# Altium footprint library Interface.PcbLib: 169 footprints (part 1 of 11)
Each footprint in its own frame and in the unit in brackets; x right, y up, seen from the top. Pads: shape width x height; smd on the part's side, far side on the other; paste and mask are expansions set on the pad; w line width, h text height; cw(c..) or ccw(c..) is an arc to the next point about the centre after c.
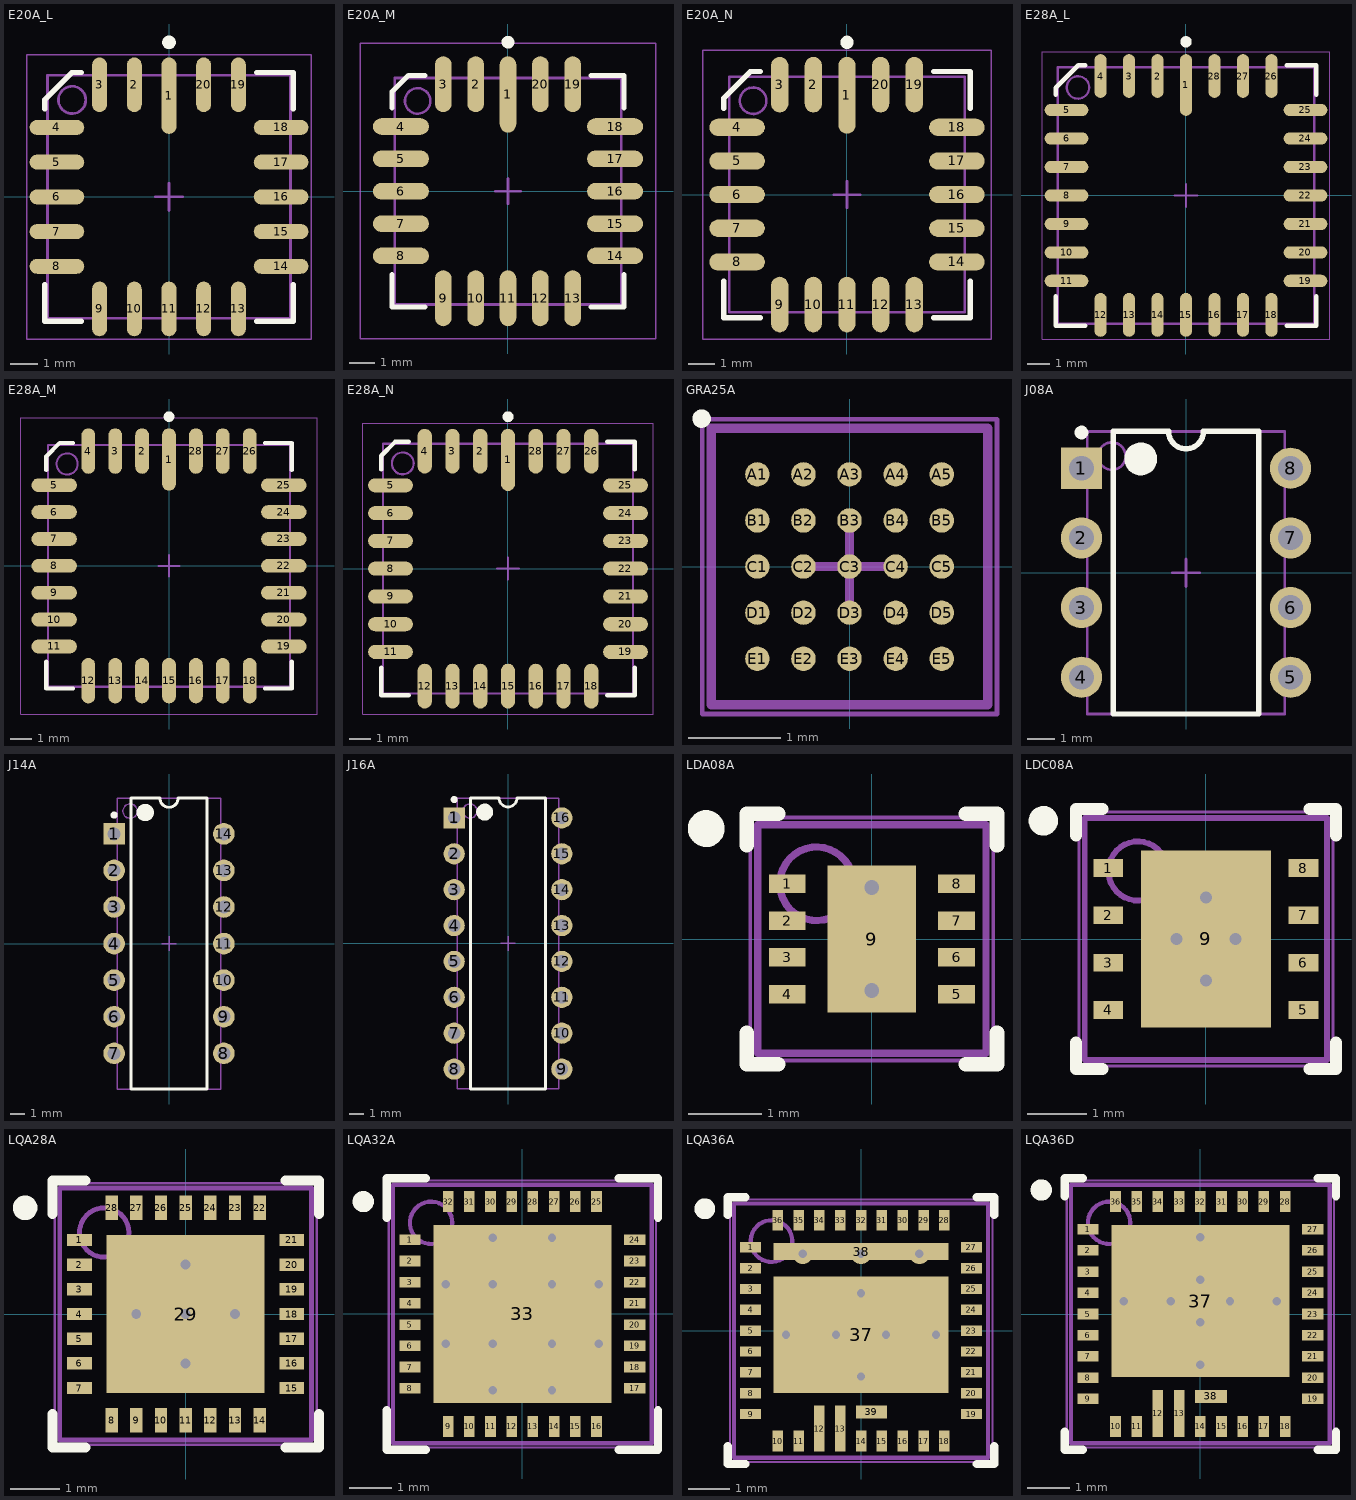
[diagram p0: the footprints below, top view; thin cyan lines are the x and y axes]

## E20A_L [mm] "Leadless Chip Carrier, 20-Leads, Body 8.9x8.9mm, Pitch 1.27mm, IPC High Density"
height 1.91
pads (20):
  oval 0.55x2.8 smd: 1(0,3.7)
  oval 0.55x2 smd: 2(-1.27,4.1) 3(-2.54,4.1) 9(-2.54,-4.1) 10(-1.27,-4.1) 11(0,-4.1) 12(1.27,-4.1) 13(2.54,-4.1) 19(2.54,4.1) 20(1.27,4.1)
  oval 2x0.55 smd: 4(-4.1,2.54) 5(-4.1,1.27) 6(-4.1,0) 7(-4.1,-1.27) 8(-4.1,-2.54) 14(4.1,-2.54) 15(4.1,-1.27) 16(4.1,0) 17(4.1,1.27) 18(4.1,2.54)
Top Overlay:
  circle w0.25: c0,5.65 r0.125
  lines w0.2: -4.55,-3.215 -4.55,-4.55 -3.215,-4.55 ; -4.55,3.215 -4.55,3.55 -3.55,4.55 -3.215,4.55 ; 3.215,-4.55 4.55,-4.55 4.55,-3.215 ; 3.215,4.55 4.55,4.55 4.55,3.215
Mechanical 13:
  circle w0.1: c-3.545,3.545 r0.5
  lines w0.1: -4.445,-4.445 4.445,-4.445 4.445,4.445 -4.445,4.445 -4.445,-4.445
Mechanical 15:
  lines w0.05: -5.2,-5.2 5.2,-5.2 5.2,5.2 -5.2,5.2 -5.2,-5.2
  lines w0.1: -0.5,0 0.5,0 ; 0,-0.5 0,0.5
3D body: height 1.91, standoff 0, extent -4.445,-4.445 4.445,4.445

## E20A_M [mm] "Leadless Chip Carrier, 20-Leads, Body 8.9x8.9mm, Pitch 1.27mm, IPC Low Density"
height 1.91
pads (20):
  oval 0.65x3 smd: 1(0,3.8)
  oval 0.65x2.2 smd: 2(-1.27,4.2) 3(-2.54,4.2) 9(-2.54,-4.2) 10(-1.27,-4.2) 11(0,-4.2) 12(1.27,-4.2) 13(2.54,-4.2) 19(2.54,4.2) 20(1.27,4.2)
  oval 2.2x0.65 smd: 4(-4.2,2.54) 5(-4.2,1.27) 6(-4.2,0) 7(-4.2,-1.27) 8(-4.2,-2.54) 14(4.2,-2.54) 15(4.2,-1.27) 16(4.2,0) 17(4.2,1.27) 18(4.2,2.54)
Top Overlay:
  circle w0.25: c0,5.85 r0.125
  lines w0.2: -4.55,-3.265 -4.55,-4.55 -3.265,-4.55 ; -4.55,3.265 -4.55,3.908 -3.908,4.55 -3.265,4.55 ; 3.265,-4.55 4.55,-4.55 4.55,-3.265 ; 3.265,4.55 4.55,4.55 4.55,3.265
Mechanical 13:
  circle w0.1: c-3.545,3.545 r0.5
  lines w0.1: -4.445,-4.445 -4.445,4.445 4.445,4.445 4.445,-4.445 -4.445,-4.445
Mechanical 15:
  lines w0.05: -5.8,-5.8 -5.8,5.8 5.8,5.8 5.8,-5.8 -5.8,-5.8
  lines w0.1: -0.5,0 0.5,0 ; 0,-0.5 0,0.5
3D body: height 1.91, standoff 0, extent -4.445,-4.445 4.445,4.445

## E20A_N [mm] "Leadless Chip Carrier, 20-Leads, Body 8.9x8.9mm, Pitch 1.27mm, IPC Medium Density"
height 1.91
pads (20):
  oval 0.65x2.9 smd: 1(0,3.75)
  oval 0.65x2.1 smd: 2(-1.27,4.15) 3(-2.54,4.15) 9(-2.54,-4.15) 10(-1.27,-4.15) 11(0,-4.15) 12(1.27,-4.15) 13(2.54,-4.15) 19(2.54,4.15) 20(1.27,4.15)
  oval 2.1x0.65 smd: 4(-4.15,2.54) 5(-4.15,1.27) 6(-4.15,0) 7(-4.15,-1.27) 8(-4.15,-2.54) 14(4.15,-2.54) 15(4.15,-1.27) 16(4.15,0) 17(4.15,1.27) 18(4.15,2.54)
Top Overlay:
  circle w0.25: c0,5.75 r0.125
  lines w0.2: -4.65,-3.265 -4.65,-4.65 -3.265,-4.65 ; -4.65,3.265 -4.65,3.65 -3.65,4.65 -3.265,4.65 ; 3.265,-4.65 4.65,-4.65 4.65,-3.265 ; 3.265,4.65 4.65,4.65 4.65,3.265
Mechanical 13:
  circle w0.1: c-3.545,3.545 r0.5
  lines w0.1: -4.445,-4.445 -4.445,4.445 4.445,4.445 4.445,-4.445 -4.445,-4.445
Mechanical 15:
  lines w0.05: -5.45,-5.45 -5.45,5.45 5.45,5.45 5.45,-5.45 -5.45,-5.45
  lines w0.1: -0.5,0 0.5,0 ; 0,-0.5 0,0.5
3D body: height 1.91, standoff 0, extent -4.445,-4.445 4.445,4.445

## E28A_L [mm] "Leadless Chip Carrier, 28-Leads, Body 11.4x11.4mm, Pitch 1.27mm, IPC High Density"
height 1.88
pads (28):
  oval 0.55x2.75 smd: 1(0,4.925)
  oval 0.55x1.95 smd: 2(-1.27,5.325) 3(-2.54,5.325) 4(-3.81,5.325) 12(-3.81,-5.325) 13(-2.54,-5.325) 14(-1.27,-5.325) 15(0,-5.325) 16(1.27,-5.325) 17(2.54,-5.325) 18(3.81,-5.325) 26(3.81,5.325) 27(2.54,5.325) 28(1.27,5.325)
  oval 1.95x0.55 smd: 5(-5.325,3.81) 6(-5.325,2.54) 7(-5.325,1.27) 8(-5.325,0) 9(-5.325,-1.27) 10(-5.325,-2.54) 11(-5.325,-3.81) 19(5.325,-3.81) 20(5.325,-2.54) 21(5.325,-1.27) 22(5.325,0) 23(5.325,1.27) 24(5.325,2.54) 25(5.325,3.81)
Top Overlay:
  circle w0.25: c0,6.85 r0.125
  lines w0.2: -5.8,-4.485 -5.8,-5.8 -4.485,-5.8 ; -5.8,4.485 -5.8,4.8 -4.8,5.8 -4.485,5.8 ; 4.485,-5.8 5.8,-5.8 5.8,-4.485 ; 4.485,5.8 5.8,5.8 5.8,4.485
Mechanical 13:
  circle w0.1: c-4.815,4.815 r0.5
  lines w0.1: -5.715,-5.715 5.715,-5.715 5.715,5.715 -5.715,5.715 -5.715,-5.715
Mechanical 15:
  lines w0.05: -6.4,-6.4 6.4,-6.4 6.4,6.4 -6.4,6.4 -6.4,-6.4
  lines w0.1: -0.5,0 0.5,0 ; 0,-0.5 0,0.5
3D body: height 1.88, standoff 0, extent -5.715,-5.715 5.715,5.715

## E28A_M [mm] "Leadless Chip Carrier, 28-Leads, Body 11.4x11.4mm, Pitch 1.27mm, IPC Low Density"
height 1.88
pads (28):
  oval 0.65x2.95 smd: 1(0,5.025)
  oval 0.65x2.15 smd: 2(-1.27,5.425) 3(-2.54,5.425) 4(-3.81,5.425) 12(-3.81,-5.425) 13(-2.54,-5.425) 14(-1.27,-5.425) 15(0,-5.425) 16(1.27,-5.425) 17(2.54,-5.425) 18(3.81,-5.425) 26(3.81,5.425) 27(2.54,5.425) 28(1.27,5.425)
  oval 2.15x0.65 smd: 5(-5.425,3.81) 6(-5.425,2.54) 7(-5.425,1.27) 8(-5.425,0) 9(-5.425,-1.27) 10(-5.425,-2.54) 11(-5.425,-3.81) 19(5.425,-3.81) 20(5.425,-2.54) 21(5.425,-1.27) 22(5.425,0) 23(5.425,1.27) 24(5.425,2.54) 25(5.425,3.81)
Top Overlay:
  circle w0.25: c0,7.05 r0.125
  lines w0.2: -5.8,-4.535 -5.8,-5.8 -4.535,-5.8 ; -5.8,4.535 -5.8,5.168 -5.168,5.8 -4.535,5.8 ; 4.535,-5.8 5.8,-5.8 5.8,-4.535 ; 4.535,5.8 5.8,5.8 5.8,4.535
Mechanical 13:
  circle w0.1: c-4.815,4.815 r0.5
  lines w0.1: -5.715,-5.715 -5.715,5.715 5.715,5.715 5.715,-5.715 -5.715,-5.715
Mechanical 15:
  lines w0.05: -7,-7 -7,7 7,7 7,-7 -7,-7
  lines w0.1: -0.5,0 0.5,0 ; 0,-0.5 0,0.5
3D body: height 1.88, standoff 0, extent -5.715,-5.715 5.715,5.715

## E28A_N [mm] "Leadless Chip Carrier, 28-Leads, Body 11.4x11.4mm, Pitch 1.27mm, IPC Medium Density"
height 1.88
pads (28):
  oval 0.65x2.85 smd: 1(0,4.975)
  oval 0.65x2.05 smd: 2(-1.27,5.375) 3(-2.54,5.375) 4(-3.81,5.375) 12(-3.81,-5.375) 13(-2.54,-5.375) 14(-1.27,-5.375) 15(0,-5.375) 16(1.27,-5.375) 17(2.54,-5.375) 18(3.81,-5.375) 26(3.81,5.375) 27(2.54,5.375) 28(1.27,5.375)
  oval 2.05x0.65 smd: 5(-5.375,3.81) 6(-5.375,2.54) 7(-5.375,1.27) 8(-5.375,0) 9(-5.375,-1.27) 10(-5.375,-2.54) 11(-5.375,-3.81) 19(5.375,-3.81) 20(5.375,-2.54) 21(5.375,-1.27) 22(5.375,0) 23(5.375,1.27) 24(5.375,2.54) 25(5.375,3.81)
Top Overlay:
  circle w0.25: c0,6.95 r0.125
  lines w0.2: -5.8,-4.535 -5.8,-5.8 -4.535,-5.8 ; -5.8,4.535 -5.8,5.168 -5.167,5.8 -4.535,5.8 ; 4.535,-5.8 5.8,-5.8 5.8,-4.535 ; 4.535,5.8 5.8,5.8 5.8,4.535
Mechanical 13:
  circle w0.1: c-4.815,4.815 r0.5
  lines w0.1: -5.715,-5.715 -5.715,5.715 5.715,5.715 5.715,-5.715 -5.715,-5.715
Mechanical 15:
  lines w0.05: -6.65,-6.65 -6.65,6.65 6.65,6.65 6.65,-6.65 -6.65,-6.65
  lines w0.1: -0.5,0 0.5,0 ; 0,-0.5 0,0.5
3D body: height 1.88, standoff 0, extent -5.715,-5.715 5.715,5.715

## GRA25A [mm] "BGA, 25-Leads, Body 3x3mm, Pitch 0.5mm, NSC Recommended"
height 1.1
pads (25):
  round 0.265 smd paste-0.132 mask+0.05: A1(-1,1) A2(-0.5,1) A3(0,1) A4(0.5,1) A5(1,1) B1(-1,0.5) B2(-0.5,0.5) B3(0,0.5) B4(0.5,0.5) B5(1,0.5) C1(-1,0) C2(-0.5,0) C3(0,0) C4(0.5,0) C5(1,0) D1(-1,-0.5) D2(-0.5,-0.5) D3(0,-0.5) D4(0.5,-0.5) D5(1,-0.5) E1(-1,-1) E2(-0.5,-1) E3(0,-1) E4(0.5,-1) E5(1,-1)
Top Overlay:
  circle w0.1: c-1.605,1.605 r0.05
Top Paste:
  drawing of 225 lines, arcs and shapes, not listed
Mechanical 13:
  lines w0.1: -1.5,-1.5 -1.5,1.5 1.5,1.5 1.5,-1.5 -1.5,-1.5
Mechanical 15:
  lines w0.05: -1.6,-1.6 -1.6,1.6 1.6,1.6 1.6,-1.6 -1.6,-1.6
  lines w0.1: -0.5,0 0.5,0 ; 0,-0.5 0,0.5
3D body: height 1.1, standoff 0, extent -1.5,-1.5 1.5,1.5

## J08A [mm] "DIP, 8-Pin, Row Spacing 7.62 mm, Pitch 2.54 mm"
height 5.08
pads (8):
  rect 1.5x1.5 hole 0.9: 1(-3.81,3.81)
  round 1.5 hole 0.9: 2(-3.81,1.27) 3(-3.81,-1.27) 4(-3.81,-3.81) 5(3.81,-3.81) 6(3.81,-1.27) 7(3.81,1.27) 8(3.81,3.81)
Top Overlay:
  circle w0.6: c-1.65,4.15 r0.3
  circle w0.25: c-3.81,5.11 r0.125
  lines w0.2: -2.65,-5.15 2.65,-5.15 2.65,5.15 0.635,5.15 cw(c0,5.15) -0.635,5.15 -2.65,5.15 -2.65,-5.15
Mechanical 13:
  circle w0.1: c-2.7,4.25 r0.5
  lines w0.1: -3.6,-5.15 3.6,-5.15 3.6,5.15 -3.6,5.15 -3.6,-5.15
Mechanical 15:
  lines w0.1: -0.5,0 0.5,0 ; 0,-0.5 0,0.5
3D body: height 5.08, standoff 0, extent -3.6,-5.15 3.6,5.15

## J14A [mm] "DIP, 14-Pin, Row Spacing 7.62 mm, Pitch 2.54 mm"
height 5.08
pads (14):
  rect 1.5x1.5 hole 0.9: 1(-3.81,7.62)
  round 1.5 hole 0.9: 2(-3.81,5.08) 3(-3.81,2.54) 4(-3.81,0) 5(-3.81,-2.54) 6(-3.81,-5.08) 7(-3.81,-7.62) 8(3.81,-7.62) 9(3.81,-5.08) 10(3.81,-2.54) 11(3.81,0) 12(3.81,2.54) 13(3.81,5.08) 14(3.81,7.62)
Top Overlay:
  circle w0.6: c-1.65,9.1 r0.3
  circle w0.25: c-3.81,8.92 r0.125
  lines w0.2: -2.65,-10.1 2.65,-10.1 2.65,10.1 0.635,10.1 cw(c0,10.1) -0.635,10.1 -2.65,10.1 -2.65,-10.1
Mechanical 13:
  circle w0.1: c-2.7,9.2 r0.5
  lines w0.1: -3.6,-10.1 3.6,-10.1 3.6,10.1 -3.6,10.1 -3.6,-10.1
Mechanical 15:
  lines w0.1: -0.5,0 0.5,0 ; 0,-0.5 0,0.5
3D body: height 5.08, standoff 0, extent -3.6,-10.1 3.6,10.1

## J16A [mm] "DIP, 16-Pin, Row Spacing 7.62 mm, Pitch 2.54 mm"
height 5.08
pads (16):
  rect 1.5x1.5 hole 0.9: 1(-3.81,8.89)
  round 1.5 hole 0.9: 2(-3.81,6.35) 3(-3.81,3.81) 4(-3.81,1.27) 5(-3.81,-1.27) 6(-3.81,-3.81) 7(-3.81,-6.35) 8(-3.81,-8.89) 9(3.81,-8.89) 10(3.81,-6.35) 11(3.81,-3.81) 12(3.81,-1.27) 13(3.81,1.27) 14(3.81,3.81) 15(3.81,6.35) 16(3.81,8.89)
Top Overlay:
  circle w0.6: c-1.65,9.3 r0.3
  circle w0.25: c-3.81,10.19 r0.125
  lines w0.2: -2.65,-10.3 2.65,-10.3 2.65,10.3 0.635,10.3 cw(c0,10.3) -0.635,10.3 -2.65,10.3 -2.65,-10.3
Mechanical 13:
  circle w0.1: c-2.7,9.375 r0.5
  lines w0.1: -3.6,-10.275 3.6,-10.275 3.6,10.275 -3.6,10.275 -3.6,-10.275
Mechanical 15:
  lines w0.1: -0.5,0 0.5,0 ; 0,-0.5 0,0.5
3D body: height 5.08, standoff 0, extent -3.6,-10.275 3.6,10.275

## LDA08A [mm] "PSON, 8-Leads, Body 3x3mm, Pitch 0.5mm, NSC Recommended"
height 0.8
pads (9):
  rect 0.5x0.25 smd paste-0.125 mask+0.051: 1(-1.15,0.75) 2(-1.15,0.25) 3(-1.15,-0.25) 4(-1.15,-0.75) 5(1.15,-0.75) 6(1.15,-0.25) 7(1.15,0.25) 8(1.15,0.75)
  rect 1.2x2 smd paste-0.6 mask+0.051: 9(0,0)
via 0,0.7 diameter 0.5 hole 0.2
via 0,-0.7 diameter 0.5 hole 0.2
Top Overlay:
  circle w0.25: c-2.25,1.5 r0.125
  lines w0.2: -1.7,-1.275 -1.7,-1.7 -1.275,-1.7 ; -1.7,1.275 -1.7,1.7 -1.275,1.7 ; 1.275,-1.7 1.7,-1.7 1.7,-1.275 ; 1.275,1.7 1.7,1.7 1.7,1.275
Top Paste:
  rectangle: -0.57,-0.95 0.57,0.95
  region: -1.5,-0.625 -1.5,-0.875 -1,-0.875 -1,-0.625
  region: -1.5,-0.125 -1.5,-0.375 -1,-0.375 -1,-0.125
  region: -1.5,0.375 -1.5,0.125 -1,0.125 -1,0.375
  region: -1.5,0.875 -1.5,0.625 -1,0.625 -1,0.875
  region: 1,-0.625 1,-0.875 1.5,-0.875 1.5,-0.625
  region: 1,-0.125 1,-0.375 1.5,-0.375 1.5,-0.125
  region: 1,0.375 1,0.125 1.5,0.125 1.5,0.375
  region: 1,0.875 1,0.625 1.5,0.625 1.5,0.875
Mechanical 13:
  circle w0.1: c-0.75,0.75 r0.5
  lines w0.1: -1.55,-1.55 -1.55,1.55 1.55,1.55 1.55,-1.55 -1.55,-1.55
Mechanical 15:
  lines w0.05: -1.65,-1.65 -1.65,1.65 1.65,1.65 1.65,-1.65 -1.65,-1.65
  lines w0.1: -0.5,0 0.5,0 ; 0,-0.5 0,0.5
3D body: height 0.8, standoff 0, extent -1.55,-1.55 1.55,1.55

## LDC08A [mm] "PSON, 8-Leads, Body 4x4mm, Pitch 0.8mm, NSC Recommended"
height 0.8
pads (9):
  rect 0.5x0.3 smd paste-0.15 mask+0.051: 1(-1.65,1.2) 2(-1.65,0.4) 3(-1.65,-0.4) 4(-1.65,-1.2) 5(1.65,-1.2) 6(1.65,-0.4) 7(1.65,0.4) 8(1.65,1.2)
  rect 2.2x3 smd paste-1.5 mask+0.051: 9(0,0)
via 0,-0.7 diameter 0.5 hole 0.2
via 0,0.7 diameter 0.5 hole 0.2
via 0.5,0 diameter 0.5 hole 0.2
via -0.5,0 diameter 0.5 hole 0.2
Top Overlay:
  circle w0.25: c-2.75,2 r0.125
  lines w0.2: -2.2,-1.75 -2.2,-2.2 -1.75,-2.2 ; -2.2,1.75 -2.2,2.2 -1.75,2.2 ; 1.75,-2.2 2.2,-2.2 2.2,-1.75 ; 1.75,2.2 2.2,2.2 2.2,1.75
Top Paste:
  region: -2,1.35 -2,1.05 -1.5,1.05 -1.5,1.35
  region: -2,0.55 -2,0.25 -1.5,0.25 -1.5,0.55
  region: -2,-0.25 -2,-0.55 -1.5,-0.55 -1.5,-0.25
  region: -2,-1.05 -2,-1.35 -1.5,-1.35 -1.5,-1.05
  region: 1.5,-1.05 1.5,-1.35 2,-1.35 2,-1.05
  region: 1.5,-0.25 1.5,-0.55 2,-0.55 2,-0.25
  region: 1.5,0.55 1.5,0.25 2,0.25 2,0.55
  region: 1.5,1.35 1.5,1.05 2,1.05 2,1.35
  region: 1,-0.15 0.15,-0.15 0.15,-1.4 1,-1.4
  rectangle: -1,-1.4 -0.15,-0.15
  rectangle: -1,0.15 -0.15,1.4
  region: 1,1.4 0.15,1.4 0.15,0.15 1,0.15
Mechanical 13:
  circle w0.1: c-1.15,1.15 r0.5
  lines w0.1: -2.05,-2.05 -2.05,2.05 2.05,2.05 2.05,-2.05 -2.05,-2.05
Mechanical 15:
  lines w0.05: -2.15,-2.15 -2.15,2.15 2.15,2.15 2.15,-2.15 -2.15,-2.15
  lines w0.1: -0.5,0 0.5,0 ; 0,-0.5 0,0.5
3D body: height 0.8, standoff 0, extent -2.05,-2.05 2.05,2.05

## LQA28A [mm] "PQFN, 28-Leads, Body 5x5mm, Pitch 0.5mm, NSC Recommended"
height 0.8
pads (29):
  rect 0.5x0.25 smd paste-0.125 mask+0.051: 1(-2.15,1.5) 2(-2.15,1) 3(-2.15,0.5) 4(-2.15,0) 5(-2.15,-0.5) 6(-2.15,-1) 7(-2.15,-1.5) 15(2.15,-1.5) 16(2.15,-1) 17(2.15,-0.5) 18(2.15,0) 19(2.15,0.5) 20(2.15,1) 21(2.15,1.5)
  rect 0.25x0.5 smd paste-0.125 mask+0.051: 8(-1.5,-2.15) 9(-1,-2.15) 10(-0.5,-2.15) 11(0,-2.15) 12(0.5,-2.15) 13(1,-2.15) 14(1.5,-2.15) 22(1.5,2.15) 23(1,2.15) 24(0.5,2.15) 25(0,2.15) 26(-0.5,2.15) 27(-1,2.15) 28(-1.5,2.15)
  rect 3.2x3.2 smd paste-1.6 mask+0.051: 29(0,0)
via 0,-1 diameter 0.5 hole 0.2
via 1,0 diameter 0.5 hole 0.2
via 0,0 diameter 0.5 hole 0.2
via -1,0 diameter 0.5 hole 0.2
via 0,1 diameter 0.5 hole 0.2
Top Overlay:
  circle w0.25: c-3.25,2.15 r0.125
  lines w0.2: -2.7,-2.025 -2.7,-2.7 -2.025,-2.7 ; -2.7,2.025 -2.7,2.7 -2.025,2.7 ; 2.025,-2.7 2.7,-2.7 2.7,-2.025 ; 2.025,2.7 2.7,2.7 2.7,2.025
Top Paste:
  rectangle: 0.15,-1.5 1.5,-0.15
  region: -0.15,-0.15 -1.5,-0.15 -1.5,-1.5 -0.15,-1.5
  region: -0.15,1.5 -1.5,1.5 -1.5,0.15 -0.15,0.15
  rectangle: 0.15,0.15 1.5,1.5
  region: 1.625,-2.5 1.625,-2 1.375,-2 1.375,-2.5
  region: 1.125,-2.5 1.125,-2 0.875,-2 0.875,-2.5
  region: 0.625,-2.5 0.625,-2 0.375,-2 0.375,-2.5
  region: 0.125,-2.5 0.125,-2 -0.125,-2 -0.125,-2.5
  region: -0.375,-2.5 -0.375,-2 -0.625,-2 -0.625,-2.5
  region: -0.875,-2.5 -0.875,-2 -1.125,-2 -1.125,-2.5
  region: -1.375,-2.5 -1.375,-2 -1.625,-2 -1.625,-2.5
  region: -1.625,2.5 -1.625,2 -1.375,2 -1.375,2.5
  region: -1.125,2.5 -1.125,2 -0.875,2 -0.875,2.5
  region: -0.625,2.5 -0.625,2 -0.375,2 -0.375,2.5
  region: -0.125,2.5 -0.125,2 0.125,2 0.125,2.5
  region: 0.375,2.5 0.375,2 0.625,2 0.625,2.5
  region: 0.875,2.5 0.875,2 1.125,2 1.125,2.5
  region: 1.375,2.5 1.375,2 1.625,2 1.625,2.5
  region: 2.5,1.625 2,1.625 2,1.375 2.5,1.375
  region: 2.5,1.125 2,1.125 2,0.875 2.5,0.875
  region: 2.5,0.625 2,0.625 2,0.375 2.5,0.375
  region: 2.5,0.125 2,0.125 2,-0.125 2.5,-0.125
  region: 2.5,-0.375 2,-0.375 2,-0.625 2.5,-0.625
  region: 2.5,-0.875 2,-0.875 2,-1.125 2.5,-1.125
  region: 2.5,-1.375 2,-1.375 2,-1.625 2.5,-1.625
  rectangle: -2.5,-1.625 -2,-1.375
  rectangle: -2.5,-1.125 -2,-0.875
  rectangle: -2.5,-0.625 -2,-0.375
  rectangle: -2.5,-0.125 -2,0.125
  rectangle: -2.5,0.375 -2,0.625
  rectangle: -2.5,0.875 -2,1.125
  rectangle: -2.5,1.375 -2,1.625
Mechanical 13:
  circle w0.1: c-1.65,1.65 r0.5
  lines w0.1: -2.55,-2.55 2.55,-2.55 2.55,2.55 -2.55,2.55 -2.55,-2.55
Mechanical 15:
  lines w0.05: -2.65,-2.65 2.65,-2.65 2.65,2.65 -2.65,2.65 -2.65,-2.65
  lines w0.1: -0.5,0 0.5,0 ; 0,-0.5 0,0.5
3D body: height 0.8, standoff 0, extent -2.55,-2.55 2.55,2.55

## LQA32A [mm] "PQFN, 32-Leads, Body 6x6mm, Pitch 0.5mm, NSC Recommended"
height 0.8
pads (33):
  rect 0.5x0.25 smd paste-0.125 mask+0.051: 1(-2.65,1.75) 2(-2.65,1.25) 3(-2.65,0.75) 4(-2.65,0.25) 5(-2.65,-0.25) 6(-2.65,-0.75) 7(-2.65,-1.25) 8(-2.65,-1.75) 17(2.65,-1.75) 18(2.65,-1.25) 19(2.65,-0.75) 20(2.65,-0.25) 21(2.65,0.25) 22(2.65,0.75) 23(2.65,1.25) 24(2.65,1.75)
  rect 0.25x0.5 smd paste-0.125 mask+0.051: 9(-1.75,-2.65) 10(-1.25,-2.65) 11(-0.75,-2.65) 12(-0.25,-2.65) 13(0.25,-2.65) 14(0.75,-2.65) 15(1.25,-2.65) 16(1.75,-2.65) 25(1.75,2.65) 26(1.25,2.65) 27(0.75,2.65) 28(0.25,2.65) 29(-0.25,2.65) 30(-0.75,2.65) 31(-1.25,2.65) 32(-1.75,2.65)
  rect 4.2x4.2 smd paste-2.1 mask+0.051: 33(0,0)
via 1.8,0.7 diameter 0.5 hole 0.2
via -1.8,0.7 diameter 0.5 hole 0.2
via -0.7,0.7 diameter 0.5 hole 0.2
via 0.7,0.7 diameter 0.5 hole 0.2
via 1.8,-0.7 diameter 0.5 hole 0.2
via -1.8,-0.7 diameter 0.5 hole 0.2
via -0.7,-0.7 diameter 0.5 hole 0.2
via 0.7,-0.7 diameter 0.5 hole 0.2
via -0.7,-1.8 diameter 0.5 hole 0.2
via 0.7,-1.8 diameter 0.5 hole 0.2
via -0.7,1.8 diameter 0.5 hole 0.2
via 0.7,1.8 diameter 0.5 hole 0.2
Top Overlay:
  circle w0.25: c-3.75,2.65 r0.125
  lines w0.2: -3.2,-2.275 -3.2,-3.2 -2.275,-3.2 ; -3.2,2.275 -3.2,3.2 -2.275,3.2 ; 2.275,-3.2 3.2,-3.2 3.2,-2.275 ; 2.275,3.2 3.2,3.2 3.2,2.275
Top Paste:
  rectangle: 1.5,1.5 2,2
  region: 1.3,1.3 0.8,1.3 0.8,0.8 1.3,0.8
  region: 1.5,1.3 1.5,0.8 2,0.8 2,1.3
  region: 1.3,1.5 1.3,2 0.8,2 0.8,1.5
  rectangle: 1.5,0.1 2,0.6
  region: 1.3,-0.1 0.8,-0.1 0.8,-0.6 1.3,-0.6
  region: 1.5,-0.1 1.5,-0.6 2,-0.6 2,-0.1
  region: 1.3,0.1 1.3,0.6 0.8,0.6 0.8,0.1
  rectangle: 0.1,1.5 0.6,2
  region: -0.1,1.3 -0.6,1.3 -0.6,0.8 -0.1,0.8
  region: 0.1,1.3 0.1,0.8 0.6,0.8 0.6,1.3
  region: -0.1,1.5 -0.1,2 -0.6,2 -0.6,1.5
  rectangle: -1.3,1.5 -0.8,2
  region: -1.5,1.3 -2,1.3 -2,0.8 -1.5,0.8
  region: -1.3,1.3 -1.3,0.8 -0.8,0.8 -0.8,1.3
  region: -1.5,1.5 -1.5,2 -2,2 -2,1.5
  rectangle: 1.5,-1.3 2,-0.8
  region: 1.3,-1.5 0.8,-1.5 0.8,-2 1.3,-2
  region: 1.5,-1.5 1.5,-2 2,-2 2,-1.5
  region: 1.3,-1.3 1.3,-0.8 0.8,-0.8 0.8,-1.3
  rectangle: -1.3,-1.3 -0.8,-0.8
  region: -1.5,-1.5 -2,-1.5 -2,-2 -1.5,-2
  region: -1.3,-1.5 -1.3,-2 -0.8,-2 -0.8,-1.5
  region: -1.5,-1.3 -1.5,-0.8 -2,-0.8 -2,-1.3
  rectangle: -1.3,0.1 -0.8,0.6
  region: -1.5,-0.1 -2,-0.1 -2,-0.6 -1.5,-0.6
  region: -1.3,-0.1 -1.3,-0.6 -0.8,-0.6 -0.8,-0.1
  region: -1.5,0.1 -1.5,0.6 -2,0.6 -2,0.1
  rectangle: 0.1,-1.3 0.6,-0.8
  region: -0.1,-1.5 -0.6,-1.5 -0.6,-2 -0.1,-2
  region: 0.1,-1.5 0.1,-2 0.6,-2 0.6,-1.5
  region: -0.1,-1.3 -0.1,-0.8 -0.6,-0.8 -0.6,-1.3
  region: -0.1,0.1 -0.1,0.6 -0.6,0.6 -0.6,0.1
  region: 0.1,-0.1 0.1,-0.6 0.6,-0.6 0.6,-0.1
  region: -0.1,-0.1 -0.6,-0.1 -0.6,-0.6 -0.1,-0.6
  region: -3,-1.625 -3,-1.875 -2.5,-1.875 -2.5,-1.625
  region: -3,-1.125 -3,-1.375 -2.5,-1.375 -2.5,-1.125
  region: -3,-0.625 -3,-0.875 -2.5,-0.875 -2.5,-0.625
  region: -3,-0.125 -3,-0.375 -2.5,-0.375 -2.5,-0.125
  region: -3,0.375 -3,0.125 -2.5,0.125 -2.5,0.375
  region: -3,0.875 -3,0.625 -2.5,0.625 -2.5,0.875
  region: -3,1.375 -3,1.125 -2.5,1.125 -2.5,1.375
  region: -3,1.875 -3,1.625 -2.5,1.625 -2.5,1.875
  region: -1.625,3 -1.875,3 -1.875,2.5 -1.625,2.5
  region: -1.125,3 -1.375,3 -1.375,2.5 -1.125,2.5
  region: -0.625,3 -0.875,3 -0.875,2.5 -0.625,2.5
  region: -0.125,3 -0.375,3 -0.375,2.5 -0.125,2.5
  region: 0.375,3 0.125,3 0.125,2.5 0.375,2.5
  region: 0.875,3 0.625,3 0.625,2.5 0.875,2.5
  region: 1.375,3 1.125,3 1.125,2.5 1.375,2.5
  region: 1.875,3 1.625,3 1.625,2.5 1.875,2.5
  region: 3,1.625 3,1.875 2.5,1.875 2.5,1.625
  region: 3,1.125 3,1.375 2.5,1.375 2.5,1.125
  region: 3,0.625 3,0.875 2.5,0.875 2.5,0.625
  region: 3,0.125 3,0.375 2.5,0.375 2.5,0.125
  region: 3,-0.375 3,-0.125 2.5,-0.125 2.5,-0.375
  region: 3,-0.875 3,-0.625 2.5,-0.625 2.5,-0.875
  region: 3,-1.375 3,-1.125 2.5,-1.125 2.5,-1.375
  region: 3,-1.875 3,-1.625 2.5,-1.625 2.5,-1.875
  rectangle: 0.1,0.1 0.6,0.6
  rectangle: -1.875,-3 -1.625,-2.5
  rectangle: -1.375,-3 -1.125,-2.5
  rectangle: -0.875,-3 -0.625,-2.5
  rectangle: -0.375,-3 -0.125,-2.5
  rectangle: 0.125,-3 0.375,-2.5
  rectangle: 0.625,-3 0.875,-2.5
  rectangle: 1.125,-3 1.375,-2.5
  rectangle: 1.625,-3 1.875,-2.5
Mechanical 13:
  circle w0.1: c-2.15,2.15 r0.5
  lines w0.1: -3.05,-3.05 3.05,-3.05 3.05,3.05 -3.05,3.05 -3.05,-3.05
Mechanical 15:
  lines w0.05: -3.15,-3.15 3.15,-3.15 3.15,3.15 -3.15,3.15 -3.15,-3.15
  lines w0.1: -0.5,0 0.5,0 ; 0,-0.5 0,0.5
3D body: height 0.8, standoff 0, extent -3.05,-3.05 3.05,3.05

## LQA36A [mm] "PQFN, 36-Leads, Body 6x6mm, Pitch 0.5mm, NSC Recommended"
height 0.8
pads (39):
  rect 0.5x0.25 smd paste-0.125 mask+0.051: 1(-2.65,2) 2(-2.65,1.5) 3(-2.65,1) 4(-2.65,0.5) 5(-2.65,0) 6(-2.65,-0.5) 7(-2.65,-1) 8(-2.65,-1.5) 9(-2.65,-2) 19(2.65,-2) 20(2.65,-1.5) 21(2.65,-1) 22(2.65,-0.5) 23(2.65,0) 24(2.65,0.5) 25(2.65,1) 26(2.65,1.5) 27(2.65,2)
  rect 0.25x0.5 smd paste-0.125 mask+0.051: 10(-2,-2.65) 11(-1.5,-2.65) 14(0,-2.65) 15(0.5,-2.65) 16(1,-2.65) 17(1.5,-2.65) 18(2,-2.65) 28(2,2.65) 29(1.5,2.65) 30(1,2.65) 31(0.5,2.65) 32(0,2.65) 33(-0.5,2.65) 34(-1,2.65) 35(-1.5,2.65) 36(-2,2.65)
  rect 0.25x1.1 smd paste-0.125 mask+0.051: 12(-1,-2.35) 13(-0.5,-2.35)
  rect 4.2x2.79 smd paste-1.395 mask+0.051: 37(0,-0.1)
  rect 4.2x0.4 smd paste-0.2 mask+0.051: 38(0,1.9)
  rect 0.75x0.31 smd paste-0.155 mask+0.051: 39(0.25,-1.95)
via 1.4,1.85 diameter 0.5 hole 0.2
via 0,1.85 diameter 0.5 hole 0.2
via -1.4,1.85 diameter 0.5 hole 0.2
via 1.8,-0.1 diameter 0.5 hole 0.2
via 0,-1.1 diameter 0.5 hole 0.2
via -1.8,-0.1 diameter 0.5 hole 0.2
via 0.6,-0.1 diameter 0.5 hole 0.2
via 0,0.9 diameter 0.5 hole 0.2
via -0.6,-0.1 diameter 0.5 hole 0.2
Top Overlay:
  circle w0.25: c-3.75,2.925 r0.125
  lines w0.2: -3.2,-2.775 -3.2,-3.2 -2.775,-3.2 ; -3.2,2.775 -3.2,3.2 -2.775,3.2 ; 2.775,-3.2 3.2,-3.2 3.2,-2.775 ; 2.775,3.2 3.2,3.2 3.2,2.775
Top Paste:
  rectangle: 0.1,-1.395 2,-0.2
  region: -0.1,-0.2 -2,-0.2 -2,-1.395 -0.1,-1.395
  region: -0.1,1.195 -2,1.195 -2,0 -0.1,0
  rectangle: 0.1,0 2,1.195
  region: 1.875,3 1.875,2.5 2.125,2.5 2.125,3
  region: 1.375,3 1.375,2.5 1.625,2.5 1.625,3
  region: 0.875,3 0.875,2.5 1.125,2.5 1.125,3
  region: 0.375,3 0.375,2.5 0.625,2.5 0.625,3
  region: -0.125,3 -0.125,2.5 0.125,2.5 0.125,3
  region: -0.625,3 -0.625,2.5 -0.375,2.5 -0.375,3
  region: -1.125,3 -1.125,2.5 -0.875,2.5 -0.875,3
  region: -1.625,3 -1.625,2.5 -1.375,2.5 -1.375,3
  region: -2.125,3 -2.125,2.5 -1.875,2.5 -1.875,3
  region: 3,-1.875 2.5,-1.875 2.5,-2.125 3,-2.125
  region: 3,-1.375 2.5,-1.375 2.5,-1.625 3,-1.625
  region: 3,-0.875 2.5,-0.875 2.5,-1.125 3,-1.125
  region: 3,-0.375 2.5,-0.375 2.5,-0.625 3,-0.625
  region: 3,0.125 2.5,0.125 2.5,-0.125 3,-0.125
  region: 3,0.625 2.5,0.625 2.5,0.375 3,0.375
  region: 3,1.125 2.5,1.125 2.5,0.875 3,0.875
  region: 3,1.625 2.5,1.625 2.5,1.375 3,1.375
  region: 3,2.125 2.5,2.125 2.5,1.875 3,1.875
  region: -1.875,-3 -1.875,-2.5 -2.125,-2.5 -2.125,-3
  region: -1.375,-3 -1.375,-2.5 -1.625,-2.5 -1.625,-3
  region: 0.125,-3 0.125,-2.5 -0.125,-2.5 -0.125,-3
  region: 0.625,-3 0.625,-2.5 0.375,-2.5 0.375,-3
  region: 1.125,-3 1.125,-2.5 0.875,-2.5 0.875,-3
  region: 1.625,-3 1.625,-2.5 1.375,-2.5 1.375,-3
  region: 2.125,-3 2.125,-2.5 1.875,-2.5 1.875,-3
  rectangle: -3,-2.125 -2.5,-1.875
  rectangle: -3,-1.625 -2.5,-1.375
  rectangle: -3,-1.125 -2.5,-0.875
  rectangle: -3,-0.625 -2.5,-0.375
  rectangle: -3,-0.125 -2.5,0.125
  rectangle: -3,0.375 -2.5,0.625
  rectangle: -3,0.875 -2.5,1.125
  rectangle: -3,1.375 -2.5,1.625
  rectangle: -3,1.875 -2.5,2.125
  rectangle: 0.1,1.7 0.6,1.95
  rectangle: 0.8,1.7 1.3,1.95
  rectangle: 1.5,1.7 2,1.95
  rectangle: -0.6,1.7 -0.1,1.95
  rectangle: -1.3,1.7 -0.8,1.95
  rectangle: -2,1.7 -1.5,1.95
Mechanical 13:
  circle w0.1: c-2.15,2.15 r0.5
  lines w0.1: -3.05,-3.05 3.05,-3.05 3.05,3.05 -3.05,3.05 -3.05,-3.05
Mechanical 15:
  lines w0.05: -3.15,-3.15 3.15,-3.15 3.15,3.15 -3.15,3.15 -3.15,-3.15
  lines w0.1: -0.5,0 0.5,0 ; 0,-0.5 0,0.5
3D body: height 0.8, standoff 0, extent -3.05,-3.05 3.05,3.05

## LQA36D [mm] "PQFN, 36-Leads, Body 6x6mm, Pitch 0.5mm, NSC Recommended"
height 0.8
pads (38):
  rect 0.5x0.25 smd paste-0.125 mask+0.051: 1(-2.65,2) 2(-2.65,1.5) 3(-2.65,1) 4(-2.65,0.5) 5(-2.65,0) 6(-2.65,-0.5) 7(-2.65,-1) 8(-2.65,-1.5) 9(-2.65,-2) 19(2.65,-2) 20(2.65,-1.5) 21(2.65,-1) 22(2.65,-0.5) 23(2.65,0) 24(2.65,0.5) 25(2.65,1) 26(2.65,1.5) 27(2.65,2)
  rect 0.25x0.5 smd paste-0.125 mask+0.051: 10(-2,-2.65) 11(-1.5,-2.65) 14(0,-2.65) 15(0.5,-2.65) 16(1,-2.65) 17(1.5,-2.65) 18(2,-2.65) 28(2,2.65) 29(1.5,2.65) 30(1,2.65) 31(0.5,2.65) 32(0,2.65) 33(-0.5,2.65) 34(-1,2.65) 35(-1.5,2.65) 36(-2,2.65)
  rect 0.25x1.11 smd paste-0.125 mask+0.051: 12(-1,-2.345) 13(-0.5,-2.345)
  rect 4.2x3.59 smd paste-1.795 mask+0.051: 37(0,0.305)
  rect 0.75x0.31 smd paste-0.155 mask+0.051: 38(0.25,-1.945)
via 1.8,0.305 diameter 0.5 hole 0.2
via -1.8,0.305 diameter 0.5 hole 0.2
via 0.7,0.305 diameter 0.5 hole 0.2
via -0.7,0.305 diameter 0.5 hole 0.2
via 0,0.805 diameter 0.5 hole 0.2
via 0,-0.195 diameter 0.5 hole 0.2
via 0,1.805 diameter 0.5 hole 0.2
via 0,-1.195 diameter 0.5 hole 0.2
Top Overlay:
  circle w0.25: c-3.75,2.925 r0.125
  lines w0.2: -3.2,-2.775 -3.2,-3.2 -2.775,-3.2 ; -3.2,2.775 -3.2,3.2 -2.775,3.2 ; 2.775,-3.2 3.2,-3.2 3.2,-2.775 ; 2.775,3.2 3.2,3.2 3.2,2.775
Top Paste:
  region: 1.875,3 1.875,2.5 2.125,2.5 2.125,3
  region: 1.375,3 1.375,2.5 1.625,2.5 1.625,3
  region: 0.875,3 0.875,2.5 1.125,2.5 1.125,3
  region: 0.375,3 0.375,2.5 0.625,2.5 0.625,3
  region: -0.125,3 -0.125,2.5 0.125,2.5 0.125,3
  region: -0.625,3 -0.625,2.5 -0.375,2.5 -0.375,3
  region: -1.125,3 -1.125,2.5 -0.875,2.5 -0.875,3
  region: -1.625,3 -1.625,2.5 -1.375,2.5 -1.375,3
  region: -2.125,3 -2.125,2.5 -1.875,2.5 -1.875,3
  region: 3,-1.875 2.5,-1.875 2.5,-2.125 3,-2.125
  region: 3,-1.375 2.5,-1.375 2.5,-1.625 3,-1.625
  region: 3,-0.875 2.5,-0.875 2.5,-1.125 3,-1.125
  region: 3,-0.375 2.5,-0.375 2.5,-0.625 3,-0.625
  region: 3,0.125 2.5,0.125 2.5,-0.125 3,-0.125
  region: 3,0.625 2.5,0.625 2.5,0.375 3,0.375
  region: 3,1.125 2.5,1.125 2.5,0.875 3,0.875
  region: 3,1.625 2.5,1.625 2.5,1.375 3,1.375
  region: 3,2.125 2.5,2.125 2.5,1.875 3,1.875
  region: -1.875,-3 -1.875,-2.5 -2.125,-2.5 -2.125,-3
  region: -1.375,-3 -1.375,-2.5 -1.625,-2.5 -1.625,-3
  region: 0.125,-3 0.125,-2.5 -0.125,-2.5 -0.125,-3
  region: 0.625,-3 0.625,-2.5 0.375,-2.5 0.375,-3
  region: 1.125,-3 1.125,-2.5 0.875,-2.5 0.875,-3
  region: 1.625,-3 1.625,-2.5 1.375,-2.5 1.375,-3
  region: 2.125,-3 2.125,-2.5 1.875,-2.5 1.875,-3
  rectangle: -3,-2.125 -2.5,-1.875
  rectangle: -3,-1.625 -2.5,-1.375
  rectangle: -3,-1.125 -2.5,-0.875
  rectangle: -3,-0.625 -2.5,-0.375
  rectangle: -3,-0.125 -2.5,0.125
  rectangle: -3,0.375 -2.5,0.625
  rectangle: -3,0.875 -2.5,1.125
  rectangle: -3,1.375 -2.5,1.625
  rectangle: -3,1.875 -2.5,2.125
  rectangle: 0.1,0.405 1.95,1.95
  region: -0.1,1.95 -1.95,1.95 -1.95,0.405 -0.1,0.405
  region: -0.1,0.205 -1.95,0.205 -1.95,-1.34 -0.1,-1.34
  rectangle: 0.1,-1.34 1.95,0.205
Mechanical 13:
  circle w0.1: c-2.15,2.15 r0.5
  lines w0.1: -3.05,-3.05 3.05,-3.05 3.05,3.05 -3.05,3.05 -3.05,-3.05
Mechanical 15:
  lines w0.05: -0.5,0.305 0.5,0.305 ; -3.15,-3.15 3.15,-3.15 3.15,3.15 -3.15,3.15 -3.15,-3.15
  lines w0.1: 0,-0.195 0,0.805
3D body: height 0.8, standoff 0, extent -3.05,-3.05 3.05,3.05